# Altium schematic symbol library 6thsense_lib.SchLib: 1 symbol
Pins are listed as number, name and electrical type; pins without a type are passive.

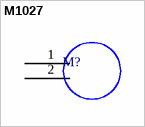
[diagram p0: symbol M1027]

## M1027
designator M?
10mm x 2.7mm vibration motor
footprint M1027
pins: 1, 2